# Altium schematic symbol library AT27C010.SchLib: 1 symbol
Pins are listed as number, name and electrical type; pins without a type are passive.

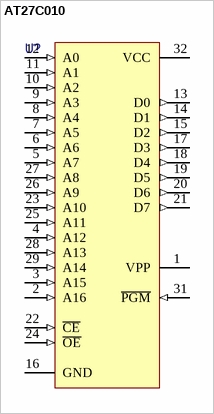
[diagram p0: symbol AT27C010]

## AT27C010
designator U?
pins: 1 VPP, 2 A16 (in), 3 A15 (in), 4 A12 (in), 5 A7 (in), 6 A6 (in), 7 A5 (in), 8 A4 (in), 9 A3 (in), 10 A2 (in), 11 A1 (in), 12 A0 (in), 13 D0 (out), 14 D1 (out), 15 D2 (out), 16 GND, 17 D3 (out), 18 D4 (out), 19 D5 (out), 20 D6 (out), 21 D7 (out), 22 ~{CE} (in), 23 A10 (in), 24 ~{OE} (in), 25 A11 (in), 26 A9 (in), 27 A8 (in), 28 A13 (in), 29 A14 (in), 31 ~{PGM} (in), 32 VCC